# Altium schematic symbol library 2SC3837K.Schlib: 1 symbol
Pins are listed as number, name and electrical type; pins without a type are passive.

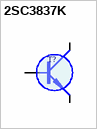
[diagram p0: symbol 2SC3837K]

## 2SC3837K
designator T?
SOT23     20V 50mA     1.5G 0.9p
pins: 1 B, 2 E (oe), 3 C (oc)
1 alternate drawing of the same symbol